# Altium integrated library MFR-12JT-52-10K.IntLib: 1 symbol
Pins are listed as number, name and electrical type; pins without a type are passive.

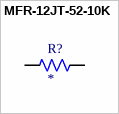
[diagram p0: symbol MFR-12JT-52-10K]

## MFR-12JT-52-10K
designator R?
Carbon Film Resistors - Through Hole 1/6W 10K Ohm; MF: Yageo Corporation; MP: MFR-12JT-52-10K; SnapEDA_Link: https://www.snapeda.com/parts/MFR-12JT-52-10K/Yageo/view-part/?ref=snap; Package: RADIAL-2 Yageo; Value: *; Check_prices: https://www.snapeda.com/parts/MFR-12JT-52-10K/Yageo/view-part/?ref=eda
footprint RESAD730W45L370D210
pins: 1, 2